# Altium footprint library 7S_display.PcbLib: 1 footprints
Each footprint in its own frame and in the unit in brackets; x right, y up, seen from the top. Pads: shape width x height; smd on the part's side, far side on the other; paste and mask are expansions set on the pad; w line width, h text height; cw(c..) or ccw(c..) is an arc to the next point about the centre after c.
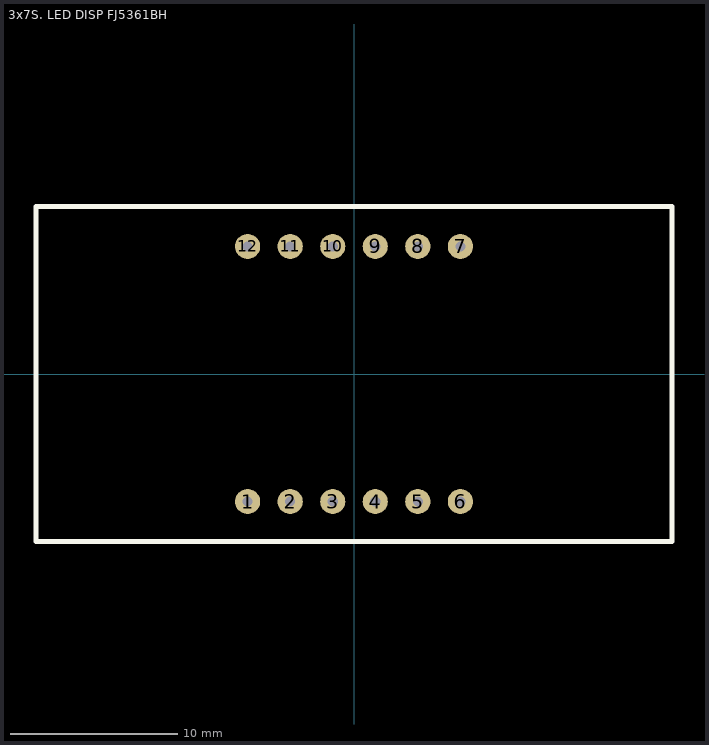
[diagram p0: the footprint, top view; thin cyan lines are the x and y axes]

## 3x7S. LED DISP FJ5361BH [mm]
pads (12):
  round 1.5 hole 0.6: 1(-6.35,-7.62) 2(-3.81,-7.62) 3(-1.27,-7.62) 4(1.27,-7.62) 5(3.81,-7.62) 6(6.35,-7.62) 7(6.35,7.62) 8(3.81,7.62) 9(1.27,7.62) 10(-1.27,7.62) 11(-3.81,7.62) 12(-6.35,7.62)
Top Overlay:
  lines w0.3: -19,-10 -19,10 0,10 19,10 19,-10 -19,-10
3D body: height 4, standoff 0, extent -6.548,7.421 -6.15,7.82
3D body: height 4, standoff 0, extent -4.008,7.421 -3.61,7.82
3D body: height 4, standoff 0, extent -1.468,7.42 -1.07,7.82
3D body: height 4, standoff 0, extent 1.072,7.421 1.47,7.82
3D body: height 4, standoff 0, extent 3.612,7.421 4.01,7.82
3D body: height 4, standoff 0, extent 6.152,7.421 6.55,7.82
3D body: height 4, standoff 0, extent 6.152,-7.819 6.55,-7.42
3D body: height 4, standoff 0, extent 5.802,-8.199 6.2,-7.8
3D body: height 4, standoff 0, extent 3.612,-7.819 4.01,-7.42
3D body: height 4, standoff 0, extent 1.072,-7.819 1.47,-7.42
3D body: height 4, standoff 0, extent -1.468,-7.819 -1.07,-7.42
3D body: height 4, standoff 0, extent -4.008,-7.819 -3.61,-7.42
3D body: height 4, standoff 0, extent -6.549,-7.82 -6.151,-7.42
3D body: height 12, standoff 4, extent -19,-10 19,10
3D body: height 1, standoff -1, extent -22.86,17.78 -22.86,17.78